# Altium schematic symbol library SnapEDAsch.SchLib: 1 symbol
Pins are listed as number, name and electrical type; pins without a type are passive.

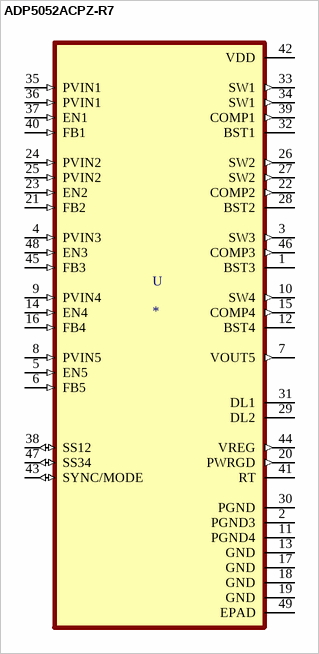
[diagram p0: symbol ADP5052ACPZ-R7]

## ADP5052ACPZ-R7
designator U
PMIC - Voltage Regulators - Linear + Switching 5 Output Step-Down _Buck_ Synchronous _4_, Linear _LDO_ _1_ 740kHz 48-LFCSP-WQ _7x7_; MP: ADP5052ACPZ-R7; MF: Analog Devices; Price: None; Value: *; Package: LFCSP -48 Analog Devices; SnapEDA_Link: https://www.snapeda.com/parts/ADP5052ACPZ-R7/Analog%20Devices%20Inc./view-part/478810/?ref=snap; Availability: Unavailable
footprint QFN50P700X700X80-49N
pins: 1 BST3, 2 PGND3 (power), 3 SW3 (out), 4 PVIN3 (in), 5 EN5 (in), 6 FB5 (in), 7 VOUT5 (out), 8 PVIN5 (in), 9 PVIN4 (in), 10 SW4 (out), 11 PGND4 (power), 12 BST4, 13 GND (power), 14 EN4 (in), 15 COMP4 (out), 16 FB4 (in), 17 GND (power), 18 GND (power), 19 GND (power), 20 PWRGD (out), 21 FB2 (in), 22 COMP2 (out), 23 EN2 (in), 24 PVIN2 (in), 25 PVIN2 (in), 26 SW2 (out), 27 SW2 (out), 28 BST2, 29 DL2, 30 PGND (power), 31 DL1, 32 BST1, 33 SW1 (out), 34 SW1 (out), 35 PVIN1 (in), 36 PVIN1 (in), 37 EN1 (in), 38 SS12 (io), 39 COMP1 (out), 40 FB1 (in), 41 RT, 42 VDD (power), 43 SYNC/MODE (io), 44 VREG (out), 45 FB3 (in), 46 COMP3 (out), 47 SS34 (io), 48 EN3 (in), 49 EPAD (power)